# EAGLE library part USB-MINIB-BO (library hs-ul)
USB MiniB-Buchse Oberflächenmontage
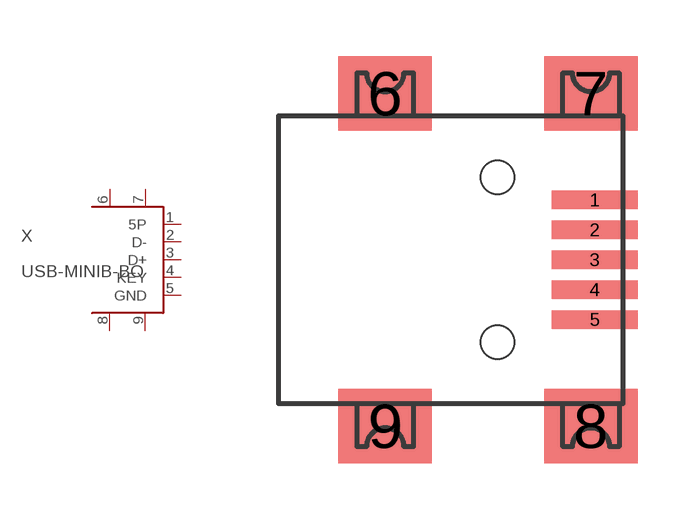
[diagram p0: symbol with the pads of USB-MINIB-BO; footprint USB-MINIB-BO]

Designator prefix X

## USB-MINIB-BO  [USB-MINIB-BO]
1  5P  sup
2  D-
3  D+
4  KEY
5  GND  pwr
6  GND  pwr
7  GND  pwr
8  GND  pwr
9  GND  pwr

## Footprint USB-MINIB-BO (pad centres in mm)
USB-MiniB-Buchse Oberflächenmontage (regulär)
smd 2.3 x 0.5: 1 7.85,1.6; 2 7.85,0.8; 3 7.85,0; 4 7.85,-0.8; 5 7.85,-1.6
smd 2.5 x 2: 6 2.25,4.45; 7 7.75,4.45; 8 7.75,-4.45; 9 2.25,-4.45
hole 0.9 at 5.25,2.2
hole 0.9 at 5.25,-2.2